# Altium schematic symbol library ADAPTONE_CARTE_DE_SON.SCHLIB: 34 symbols
Pins are listed as number, name and electrical type; pins without a type are passive.

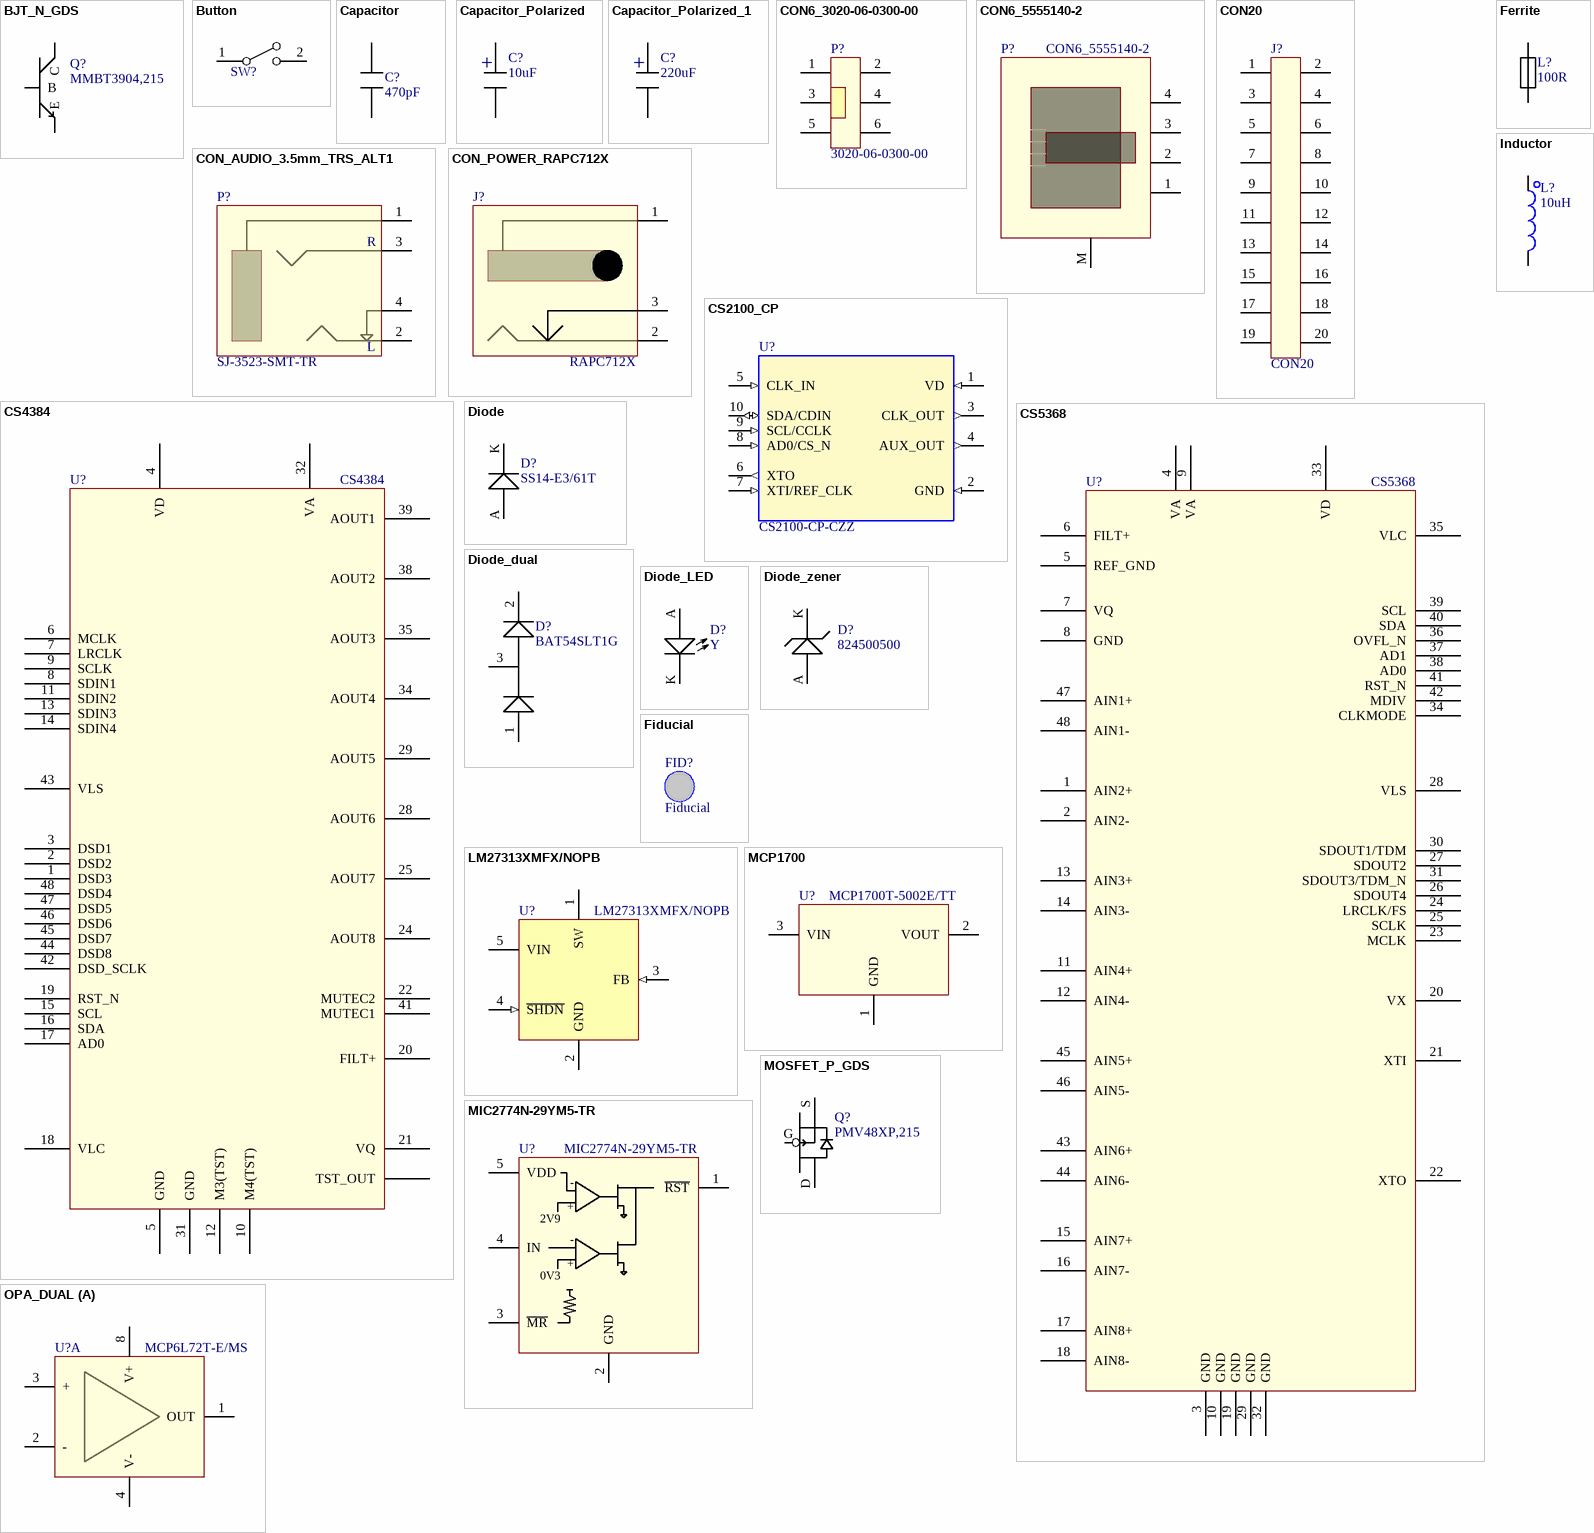
[diagram p0: symbols BJT_N_GDS to OPA_DUAL]

## BJT_N_GDS
designator Q?  Mfg_PN: MMBT3904,215  (hidden comment: BJT_N_GDS)
BJT NPN; Mfg: NXP; HelpURL: *; NI: *; Rating: *; Supplier1: Digikey; Supplier1_PN: 568-4510-1-ND; Tolerance: *; Type: *; Value: *
footprint SOT23_GDS (SOT23, 3-Leads, Body 3,0x2,6mm (max), Pitch 0,95mm, IPC Medium Density)
footprint TO254P1524X483-3N (D2-PAK, 3-Pads, Body 9,6x10,7mm (max), IPC Medium Density)
footprint SOT723 (ONSEMI CASE 631AA FOR DTC143Z-D)
pins: D C, G B, S E

## Button
designator SW?  (value not drawn)
Mfg: Wurth; Mfg_PN: 430152050826; HelpURL: *; NI: *; Rating: *; Tolerance: *; Value: *; Supplier1: Digikey; Supplier1_PN: 732-6993-1-ND
footprint SWITCH_EVQPU (Right-angle pushbutton, SMD, with mounting holes)
footprint BUTTON_FSM4JSMA (Note: pins inversées par rapport à la datasheet pour être compatible avec composant schématique "Button" (contact entre pins 1-2, serait entre 1-3 selon la datasheet))
footprint BUTTON_KS-01Q-01 (Note: pins inversées par rapport à la datasheet pour être compatible avec composant schématique "Button" (contact entre pins 1-2))
footprint BUTTON_WS-TASV (430152130836)
pins: 1, 2, 3 hidden, 4 hidden

## Capacitor
designator C?  value 470pF  (hidden comment: Capacitor)
Mfg: Samsung; Mfg_PN: CL10C471JB8NCNC; HelpURL: *; NI: *; Supplier1: Digikey; Supplier1_PN: 1276-2302-1-ND; Tolerance: *; Type: *; Rating: *
footprint 0402 (Chip Resistor, 2-Leads, Body 1,0x0,5mm, IPC Medium Density)
footprint 0603 (Chip Resistor, 2-Leads, Body 1,5x0,8mm, IPC Medium Density)
footprint 0805 (Chip Resistor, 2-Leads, Body 2,0x1,3mm, IPC Medium Density)
footprint 1206 (Chip Resistor, 2-Leads, Body 3,2x1,6mm, IPC Medium Density)
footprint 1210 (Chip Resistor, 2-Leads, Body 3,2x2,5mm, IPC Medium Density)
footprint 1812 (Chip Resistor, 2-Leads)
footprint 2010 (Chip Resistor, 2-Leads, Body 5,0x2,5mm, IPC Medium Density)
footprint 2512 (Chip Resistor, 2-Leads, Body 6,3x3,2mm, IPC Medium Density)
footprint 0201
pins: 1, 2

## Capacitor_Polarized
designator C?  value 10uF  (hidden comment: Capacitor_Polarized)
Capacitor; Mfg: Nichicon; Mfg_PN: UWX1C100MCL1GB; HelpURL: *; NI: *; Supplier1: Digikey; Supplier1_PN: 493-2100-1-ND; Tolerance: *; Type: *; Rating: *
footprint CAP_RAD_LS197_DIA394 (Lead spacing 0.197", Diameter 0.394")
footprint CAP_RAD_LS098_DIA315 (Lead spacing 0.098", Diameter 0.315")
footprint CAP_RAD_SMD_DIA157 (Aluminum Electrolytic Capacitor, D55 size code (UCC))
pins: +, -

## Capacitor_Polarized_1
designator C?, comment value 220uF  (hidden comment: Capacitor_Polarized)
Capacitor; Mfg: Nichicon; Mfg_PN: UWT1E221MNL1GS; HelpURL: *; NI: *; Supplier1: Digikey; Supplier1_PN: 493-2192-1-ND; Tolerance: *; Type: *; Rating: *
footprint CAP_RAD_LS197_DIA394 (Lead spacing 0.197", Diameter 0.394")
footprint CAP_RAD_LS098_DIA315 (Lead spacing 0.098", Diameter 0.315")
footprint CAP_RAD_SMD_DIA157 (Aluminum Electrolytic Capacitor, D55 size code (UCC))
footprint CAP_RAD_SMD_DIA315 (Aluminum Electrolytic Capacitor, 8mm diameter)
pins: +, -

## CON6_3020-06-0300-00
designator P?  Mfg_PN: 3020-06-0300-00  (hidden comment: CON6_3020-06-0300-00)
6-pins; Mfg: Harwin; HelpURL: *; NI: *; Rating: *; Supplier1: Digikey; Supplier1_PN: 3020-06-0300-00-ND; Tolerance: *; Type: *; Value: *
footprint CONN6_100mils_pol_SMD (CNC Tech 3020-06-0300-00)
pins: 1, 2, 3, 4, 5, 6

## CON6_5555140-2
designator P?
6p4c RJ11/RJ14, shielded (5555165-2 unshielded); Mfg: TE; HelpURL: *; Mfg_PN: 5555140-2; NI: *; Rating: *; Supplier1: Digikey; Supplier1_PN: A31436-ND; Tolerance: *; Type: *; Value: *
footprint CONN4_5555140-2 (5555140-2 (shielded) ou 5555165-2 (unshielded))
pins: 1, 2, 3, 4, M

## CON20
designator J?
20-pins; Mfg: CNC Tech; Mfg_PN: 3020-20-0300-00; HelpURL: *; NI: *; Rating: *; Supplier1: Digikey; Supplier1_PN: 1175-1623-ND; Tolerance: *; Type: *; Value: *
footprint CONN_2x10_0.050" (FCI 20021111)
footprint CONN20_100mils-Dualrow
footprint CONN20_100MILS-DUALROW-SMT (Double Row Gullwing ASM, 2x10 Pins, Vertical, 2.54mm Pitch, Male)
footprint CONN20_100mils_pol_SMD (CNC Tech 3020-20-0300-00)
pins: 1, 2, 3, 4, 5, 6, 7, 8, 9, 10, 11, 12, 13, 14, 15, 16, 17, 18, 19, 20

## CON_AUDIO_3.5mm_TRS_ALT1
designator P?  Mfg_PN: SJ-3523-SMT-TR  (hidden comment: CON_AUDIO_3.5mm_TRS_ALT1)
Audio 3.5mm CUI SJ-3523-SMT-TR; HelpURL: *; Mfg: CUI; NI: *; Rating: *; Supplier1: Digikey; Supplier1_PN: CP-3523SJCT-ND; Tolerance: *; Type: *; Value: *
footprint CONN_3.5mm_CUI 3523-SMT (Right-angle, surface-mounted 3.5mm connector TRRS)
pins: 1, 2 L, 3 R, 4 NC_L

## CON_POWER_RAPC712X
designator J?  Mfg_PN: RAPC712X  (hidden comment: CON_POWER_RAPC712X)
Power barrel connector, through-hole, 2.5mm ID,; Mfg: Switchcraft Inc.; HelpURL: *; NI: *; Rating: *; Supplier1: Digikey; Supplier1_PN: SC237-ND; Tolerance: *; Type: *; Value: *
footprint CONN_2.5mmID5.5mmOD_RAPC712X (Right-angle, through-hole power connector)
pins: 1 CENTER, 2 GROUND, 3 SW/BATT

## CS2100_CP
designator U?  Mfg_PN: CS2100-CP-CZZ  (hidden comment: CS2100_CP)
Fractional-N Clock Multiplier, Crystal Reference, MSOP10; Mfg: Cirrus Logic; Supplier1: Digikey; Supplier1_PN: 598-1750-ND
footprint MSOP10
pins: 1 VD (in), 2 GND (in), 3 CLK_OUT (out), 4 AUX_OUT (out), 5 CLK_IN (in), 6 XTO (out), 7 XTI/REF_CLK (in), 8 AD0/CS_N (in), 9 SCL/CCLK (in), 10 SDA/CDIN (io)

## CS4384
designator U?
DAC, 24-bit, 8 chan, 192kHz, PCM, TDM, DSD, LQFP48; Mfg: Cirrus; Mfg_PN: CS4384-CQZ; Supplier1: Digikey; Supplier1_PN: 598-1062-ND
footprint LQFP_48L_CIRRUS
pins: 1 DSD3, 2 DSD2, 3 DSD1, 4 VD, 5 GND, 6 MCLK, 7 LRCLK, 8 SDIN1, 9 SCLK, 10 M4(TST), 11 SDIN2, 12 M3(TST), 13 SDIN3, 14 SDIN4, 15 SCL, 16 SDA, 17 AD0, 18 VLC, 19 RST_N, 20 FILT+, 21 VQ, 22 MUTEC2, 23 TST_OUT hidden, 24 AOUT8, 25 AOUT7, 26 TST_OUT hidden, 27 TST_OUT hidden, 28 AOUT6, 29 AOUT5, 30 TST_OUT hidden, 31 GND, 32 VA, 33 TST_OUT hidden, 34 AOUT4, 35 AOUT3, 36 TST_OUT hidden, 37 TST_OUT hidden, 38 AOUT2, 39 AOUT1, 40 TST_OUT, 41 MUTEC1, 42 DSD_SCLK, 43 VLS, 44 DSD8, 45 DSD7, 46 DSD6, 47 DSD5, 48 DSD4

## CS5368
designator U?
ADC, 24bit, 8 chan, 192kHz, PCM, TDM, LQFP48; Mfg_PN: CS5368-CQZ; Mfg: Cirrus; Supplier1: Digikey; Supplier1_PN: 598-1090-ND
footprint LQFP_48L_CIRRUS
pins: 1 AIN2+, 2 AIN2-, 3 GND, 4 VA, 5 REF_GND, 6 FILT+, 7 VQ, 8 GND, 9 VA, 10 GND, 11 AIN4+, 12 AIN4-, 13 AIN3+, 14 AIN3-, 15 AIN7+, 16 AIN7-, 17 AIN8+, 18 AIN8-, 19 GND, 20 VX, 21 XTI, 22 XTO, 23 MCLK, 24 LRCLK/FS, 25 SCLK, 26 SDOUT4, 27 SDOUT2, 28 VLS, 29 GND, 30 SDOUT1/TDM, 31 SDOUT3/TDM_N, 32 GND, 33 VD, 34 CLKMODE, 35 VLC, 36 OVFL_N, 37 AD1, 38 AD0, 39 SCL, 40 SDA, 41 RST_N, 42 MDIV, 43 AIN6+, 44 AIN6-, 45 AIN5+, 46 AIN5-, 47 AIN1+, 48 AIN1-

## Diode
designator D?  Mfg_PN: SS14-E3/61T  (hidden comment: Diode)
Mfg: Vishay; HelpURL: *; NI: *; Supplier1: Digikey; Supplier1_PN: SS14-E3/61TGICT-ND; Tolerance: *; Type: *; Rating: *; Value: *
footprint DIOM2716X14N (SOD-123)
footprint DIODE_SMC (SMC)
footprint DIODE_SOD523 (Per NXP footprint recommendation (reflow soldering))
footprint DIODE_SMB (SMB)
footprint DIODE_SMA (SMA)
pins: A, K

## Diode_dual
designator D?  Mfg_PN: BAT54SLT1G  (hidden comment: Diode_dual)
Diode; Mfg: Onsemi; HelpURL: *; NI: *; Supplier1: Digikey; Supplier1_PN: BAT54SLT1GOSCT-ND; Tolerance: *; Type: *; Rating: *; Value: *
footprint SOT23_132 (SOT23, 3-Leads, Body 3,0x2,6mm (max), Pitch 0,95mm, IPC Medium Density)
pins: 1 K, 2 K, 3 AK

## Diode_LED
designator D?  Type: Y  (hidden comment: Diode_LED)
LED; Mfg: Osram; Mfg_PN: LY R976-PS-36; HelpURL: *; NI: *; Supplier1: Digikey; Supplier1_PN: 475-2560-1-ND; Tolerance: *; Rating: *; Value: *
footprint 0805_LED (Chip Resistor, 2-Leads, Body 2,0x1,3mm, IPC Medium Density)
footprint DIODE_LED_T1.75 (T1-3/4)
pins: A, K

## Diode_zener
designator D?  Mfg_PN: 824500500  (hidden comment: Diode_zener)
Diode; Mfg: Wurth; HelpURL: *; NI: *; Supplier1: Digikey; Supplier1_PN: 732-9974-1-ND; Tolerance: *; Type: *; Rating: *; Value: *
footprint DIOM2716X14N (SOD-123)
footprint DIODE_SOD523 (Per NXP footprint recommendation (reflow soldering))
footprint DIODE_DO-214AC/SMA (Molded Diode, 2-Leads, Body 4,25x2,67mm, IPC Low Density)
pins: A, K

## Ferrite
designator L?  value 100R  (hidden comment: Ferrite)
Mfg: Bourns; Mfg_PN: MH2029-101Y; Rating: 1A; HelpURL: *; NI: *; Supplier1: Digikey; Supplier1_PN: MH2029-101YCT-ND; Tolerance: *; Type: *
footprint 0402 (Chip Resistor, 2-Leads, Body 1,0x0,5mm, IPC Medium Density)
footprint 0603 (Chip Resistor, 2-Leads, Body 1,5x0,8mm, IPC Medium Density)
footprint 0805 (Chip Resistor, 2-Leads, Body 2,0x1,3mm, IPC Medium Density)
footprint 1206 (Chip Resistor, 2-Leads, Body 3,2x1,6mm, IPC Medium Density)
footprint 1210 (Chip Resistor, 2-Leads, Body 3,2x2,5mm, IPC Medium Density)
footprint Model Name (Footprint not found)
footprint 1812 (Chip Resistor, 2-Leads, Body 4,4x3,1mm, IPC Medium Density)
pins: 1, 2

## Fiducial
designator FID?
HelpURL: *; Mfg: *; Mfg_PN: *; NI: NI; Rating: *; Supplier1: *; Supplier1_PN: *; Tolerance: *; Type: *; Value: *
footprint FIDUCIAL
pins: 0 hidden

## Inductor
designator L?  value 10uH  (hidden comment: Inductor)
Mfg: Murata; Mfg_PN: DFE252012F-100M=P2; HelpURL: *; NI: *; Rating: *; Tolerance: *; Supplier1: Digikey; Supplier1_PN: 490-13050-1-ND
footprint IND_252012CDMC/DS
footprint IND_SRN4018
footprint IND_SRR5028 (Chip Inductor (non-standard)
footprint 0603 (Chip Resistor, 2-Leads, Body 1,5x0,8mm, IPC Medium Density)
footprint IND_SDE1006A (SMT inductor)
footprint IND_TYS6045 (SMT inductor)
footprint IND_TYS8040 (SMT inductor)
footprint 1210 (Chip Resistor, 2-Leads, Body 3,2x2,5mm, IPC Medium Density)
footprint TAIYO_NR6020
pins: 1, 2

## LM27313XMFX/NOPB
designator U?
1.6 MHz Boost Converter With 30V Internal FET Switch, 5-pin SOT-23, Pb-Free, 3000 Reel; Mfg: TI; Mfg_PN: LM27313XMF/NOPB; Supplier1: Digikey; Supplier1_PN: LM27313XMF/NOPBCT-ND
footprint MF05A_N (SOT23, 5-Leads, Body 2.9x1.6mm, Pitch 0.95mm, Lead Span 2.8mm, IPC Medium Density)
pins: 1 SW (power), 2 GND (power), 3 FB (in), 4 ~{SHDN} (in), 5 VIN (power)

## MCP1700
designator U?  Mfg_PN: MCP1700T-5002E/TT  (hidden comment: MCP1700)
Linear voltage regulator; Mfg: Microchip; HelpURL: http://ww1.microchip.com/downloads/en/DeviceDoc/20001826C.pdf; NI: *; Supplier1: Digikey; Supplier1_PN: MCP1700T5002ETTCT-ND; Type: *
footprint SOT23_132 (SOT23, 3-Leads, Body 3,0x2,6mm (max), Pitch 0,95mm, IPC Medium Density)
pins: 1 GND, 2 VOUT, 3 VIN

## MIC2774N-29YM5-TR
designator U?
Voltage supervisor and power-on timer, dual; Mfg: Micrel; HelpURL: *; Mfg_PN: MIC2774N-29YM5-TR; NI: *; Rating: *; Supplier1: Digikey; Supplier1_PN: 576-1101-1-ND; Tolerance: *; Type: *; Value: *
footprint SOT23_5
pins: 1 ~{RST} (oc), 2 GND, 3 ~{MR}, 4 IN, 5 VDD
text: -; +; 2V9; 0V3

## MOSFET_P_GDS
designator Q?  Mfg_PN: PMV48XP,215  (hidden comment: MOSFET_P_GDS)
PMOS; Mfg: NXP; HelpURL: *; NI: *; Rating: *; Supplier1: Digikey; Supplier1_PN: 568-7579-1-ND; Tolerance: *; Type: *; Value: *
footprint SOT23_GDS (SOT23, 3-Leads, Body 3,0x2,6mm (max), Pitch 0,95mm, IPC Medium Density)
footprint TO254P1524X483-3N (D2-PAK, 3-Pads, Body 9,6x10,7mm (max), IPC Medium Density)
footprint DMP2018LFK (DFN-6 P-MOSFET DMP2018LFK)
footprint SOT723 (ONSEMI CASE 631AA FOR DTC143Z-D)
pins: D, G, S

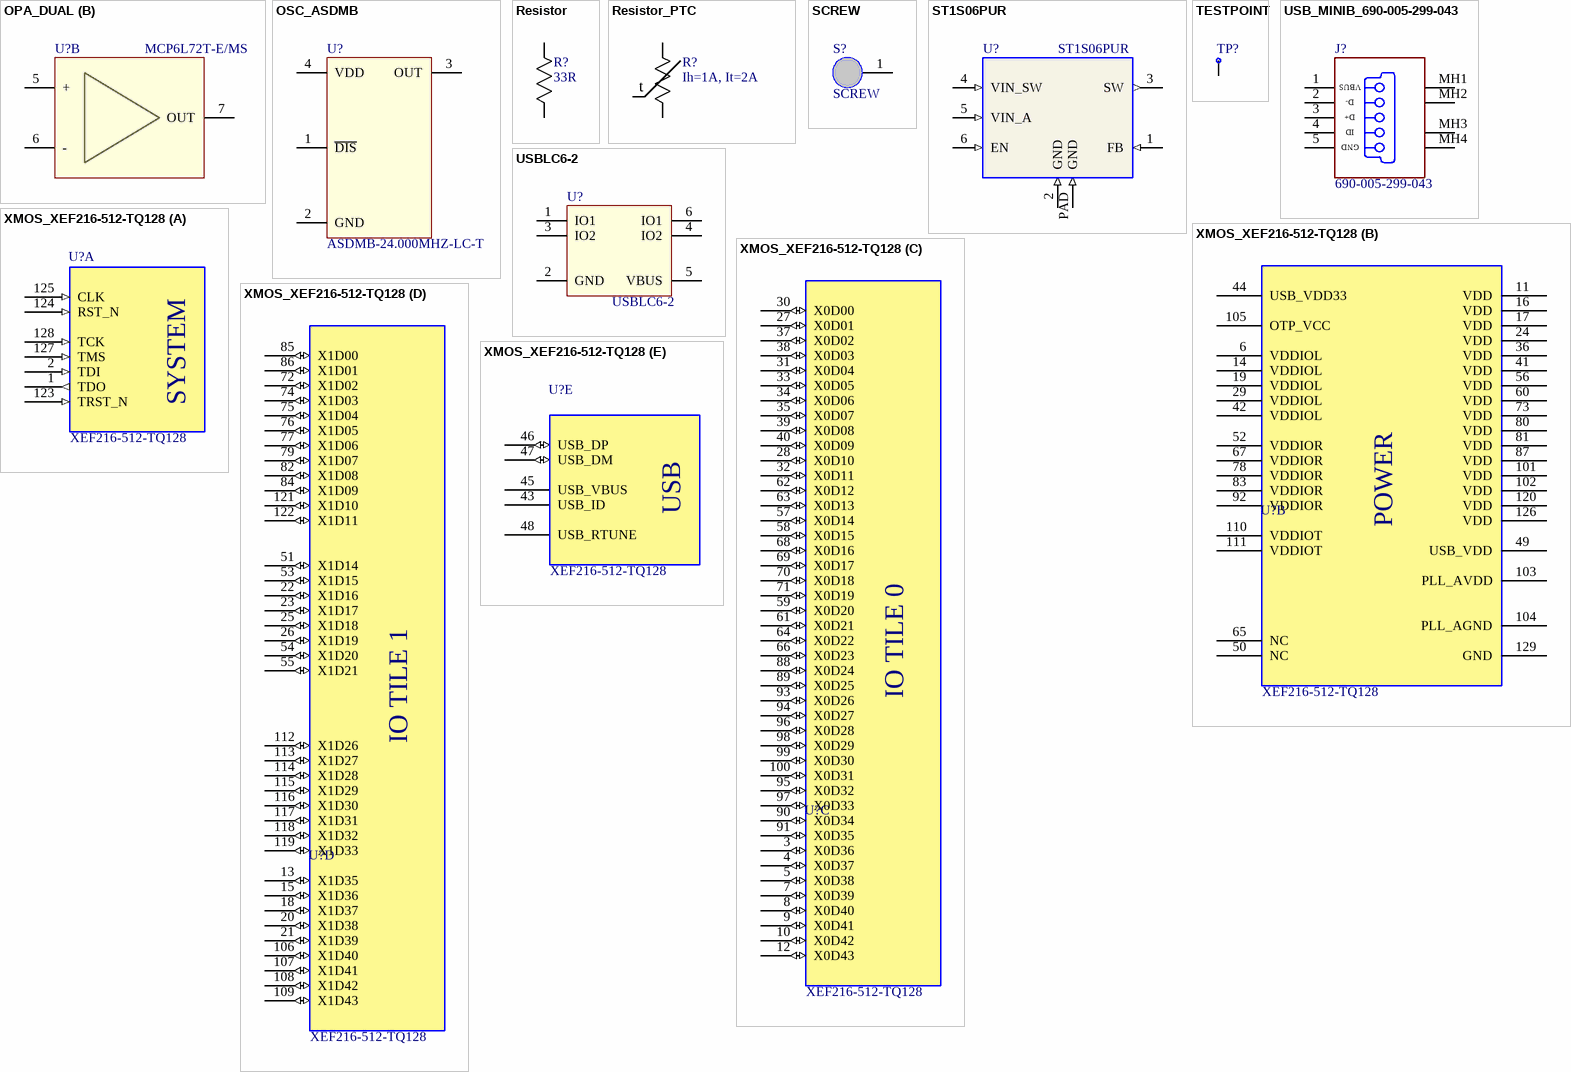
[diagram p1: symbols OPA_DUAL to XMOS_XEF216-512-TQ128]

## OPA_DUAL
designator U?  Mfg_PN: MCP6L72T-E/MS  (hidden comment: OPA_DUAL)
Dual amplifier (standard); Mfg: Microchip; HelpURL: *; NI: *; Rating: *; Supplier1: Digikey; Supplier1_PN: MCP6L72T-E/MSCT-ND; Tolerance: *; Value: *
footprint SOIC127P600-8N (For OPA2314)
footprint SOP127P600-8N
part A pins: 1 OUT, 2 -, 3 +, 4 V-, 8 V+
part B pins: 5 +, 6 -, 7 OUT

## OSC_ASDMB
designator U?  Mfg_PN: ASDMB-24.000MHZ-LC-T  (hidden comment: OSC_ASDMB)
Oscillator; 1V8 to 3V3; Mfg: Abracon; HelpURL: http://www.abracon.com/Oscillators/ASDMB.pdf; Supplier1: Digikey; Supplier1_PN: 535-11728-1-ND; NI: *; Type: 24MHz
footprint OSC_ADSMB (Oscillator)
pins: 1 ~{DIS}, 2 GND, 3 OUT, 4 VDD

## Resistor
designator R?  value 33R  (hidden comment: Resistor)
Mfg: Yageo; Mfg_PN: RC0603JR-0733RL; HelpURL: *; NI: *; Supplier1: Digikey; Supplier1_PN: 311-33GRCT-ND; Type: *; Rating: *; Tolerance: *
footprint 0603 (Chip Resistor, 2-Leads, Body 1,5x0,8mm, IPC Medium Density)
footprint 0805 (Chip Resistor, 2-Leads, Body 2,0x1,3mm, IPC Medium Density)
footprint 1206 (Chip Resistor, 2-Leads, Body 3,2x1,6mm, IPC Medium Density)
footprint 1210 (Chip Resistor, 2-Leads, Body 3,2x2,5mm, IPC Medium Density)
footprint 2010 (Chip Resistor, 2-Leads, Body 5,0x2,5mm, IPC Medium Density)
footprint 0402 (Chip Resistor, 2-Leads, Body 1,0x0,5mm, IPC Medium Density)
footprint 0201
footprint 2512 (Chip Resistor, 2-Leads, Body 6,3x3,2mm, IPC Medium Density)
pins: 1, 2

## Resistor_PTC
designator R?  value Ih=1A, It=2A  (hidden comment: Resistor_PTC)
Mfg: Bel fuse; Mfg_PN: 0ZCK0100FF2E; HelpURL: *; NI: *; Supplier1: Digikey; Supplier1_PN: 507-1815-1-ND; Type: *; Rating: *; Tolerance: *
footprint 2920 (2920 PTC from Bel fuse, 0ZCF series)
footprint 0805 (Chip Resistor, 2-Leads, Body 2,0x1,3mm, IPC Medium Density)
pins: 1, 2
text: t

## SCREW
designator S?
Screw hole; HelpURL: *; Mfg: *; Mfg_PN: *; NI: NI; Rating: *; Supplier1: *; Supplier1_PN: *; Tolerance: *; Type: *; Value: *
footprint SCREW_4_40
footprint SCREW_M3_STANDOFF_WURTH (9774040360R)
pins: 1

## ST1S06PUR
designator U?
DC-DC Buck Converter, 1.5A, 1.5MHz, DFN6; Mfg: ST Microelectronics; Mfg_PN: ST1S06PUR; Supplier1: Digikey; Supplier1_PN: 497-5802-1-ND
footprint DFN6_ST1S06
pins: 1 FB (in), 2 GND (in), 3 SW (out), 4 VIN_SW (in), 5 VIN_A (in), 6 EN (in), PAD GND (in)

## TESTPOINT
designator TP?  (value not drawn)
Test point; Mfg: TE; Mfg_PN: RCU-0C; HelpURL: *; NI: *; Rating: *; Supplier1: Digikey; Supplier1_PN: A106145CT-ND; Tolerance: *; Type: *; Value: *
footprint 1206 (Chip Resistor, 2-Leads, Body 3,2x1,6mm, IPC Medium Density)
footprint 0603 (Chip Resistor, 2-Leads, Body 1,5x0,8mm, IPC Medium Density)
footprint TESTPOINT
pins: 1, 2

## USB_MINIB_690-005-299-043
designator J?  Mfg_PN: 690-005-299-043  (hidden comment: USB_MINIB_690-005-299-043)
USB On-The-Go (OTG) Mini-B Receptacle, Right Angle, SMT, 0.80mm (.031") Pitch, Solder Tabs with Back Cover, Recessed Type; Mfg: EDAC; Supplier1: Digikey; Supplier1_PN: 151-1206-1-ND
footprint CONN_USB_MINIB_690-005-299-043 (Connector; USB Mini-B, SM; 5 Position; Right Angle)
pins: 1 V BUS (5V) "USB Vcc [Red]", 2 D- "USB Data - [White]", 3 D+ "USB Data + [Green]", 4 NC "Not Connected (or joined to pin 5 via resistor)", 5 GND "Ground [Black]", MH1 Tab "Shell", MH2 Tab "Shell", MH3 Tab "Shell", MH4 Tab "Shell"
text: VBUS; ID

## USBLC6-2
designator U?
USB overvoltage protection; Mfg: ST; HelpURL: http://www.st.com/web/en/resource/technical/document/datasheet/CD00050750.pdf; Mfg_PN: USBLC6-2; NI: *; Supplier1: Digikey; Supplier1_PN: 497-5026-2-ND; Type: *
footprint USBLC6-2 (SOT666, USB overvoltage protection device)
pins: 1 IO1, 2 GND, 3 IO2, 4 IO2, 5 VBUS, 6 IO1

## XMOS_XEF216-512-TQ128
designator U?  Mfg_PN: XEF216-512-TQ128
32-bit multicore microcontroller. 2 Tiles. 16 Logical Cores. 512KB SRAM. 1000MIPS. TQFP128.; Mfg: XMOS; Supplier1: Digikey; Supplier1_PN: 880-1100-ND
footprint TQFP128_XMOS
part A pins: 1 TDO (out), 2 TDI (in), 123 TRST_N (in), 124 RST_N (in), 125 CLK (in), 127 TMS (in), 128 TCK (in)
part B pins: 6 VDDIOL (power), 11 VDD (power), 14 VDDIOL (power), 16 VDD (power), 17 VDD (power), 19 VDDIOL (power), 24 VDD (power), 29 VDDIOL (power), 36 VDD (power), 41 VDD (power), 42 VDDIOL (power), 44 USB_VDD33 (power), 49 USB_VDD (power), 50 NC, 52 VDDIOR (power), 56 VDD (power), 60 VDD (power), 65 NC, 67 VDDIOR (power), 73 VDD (power), 78 VDDIOR (power), 80 VDD (power), 81 VDD (power), 83 VDDIOR (power), 87 VDD (power), 92 VDDIOR (power), 101 VDD (power), 102 VDD (power), 103 PLL_AVDD (power), 104 PLL_AGND (power), 105 OTP_VCC (power), 110 VDDIOT (power), 111 VDDIOT (power), 120 VDD (power), 126 VDD (power), 129 GND (power)
part C pins: 3 X0D36 (io), 4 X0D37 (io), 5 X0D38 (io), 7 X0D39 (io), 8 X0D40 (io), 9 X0D41 (io), 10 X0D42 (io), 12 X0D43 (io), 27 X0D01 (io), 28 X0D10 (io), 30 X0D00 (io), 31 X0D04 (io), 32 X0D11 (io), 33 X0D05 (io), 34 X0D06 (io), 35 X0D07 (io), 37 X0D02 (io), 38 X0D03 (io), 39 X0D08 (io), 40 X0D09 (io), 57 X0D14 (io), 58 X0D15 (io), 59 X0D20 (io), 61 X0D21 (io), 62 X0D12 (io), 63 X0D13 (io), 64 X0D22 (io), 66 X0D23 (io), 68 X0D16 (io), 69 X0D17 (io), 70 X0D18 (io), 71 X0D19 (io), 88 X0D24 (io), 89 X0D25 (io), 90 X0D34 (io), 91 X0D35 (io), 93 X0D26 (io), 94 X0D27 (io), 95 X0D32 (io), 96 X0D28 (io), 97 X0D33 (io), 98 X0D29 (io), 99 X0D30 (io), 100 X0D31 (io)
part D pins: 13 X1D35 (io), 15 X1D36 (io), 18 X1D37 (io), 20 X1D38 (io), 21 X1D39 (io), 22 X1D16 (io), 23 X1D17 (io), 25 X1D18 (io), 26 X1D19 (io), 51 X1D14 (io), 53 X1D15 (io), 54 X1D20 (io), 55 X1D21 (io), 72 X1D02 (io), 74 X1D03 (io), 75 X1D04 (io), 76 X1D05 (io), 77 X1D06 (io), 79 X1D07 (io), 82 X1D08 (io), 84 X1D09 (io), 85 X1D00 (io), 86 X1D01 (io), 106 X1D40 (io), 107 X1D41 (io), 108 X1D42 (io), 109 X1D43 (io), 112 X1D26 (io), 113 X1D27 (io), 114 X1D28 (io), 115 X1D29 (io), 116 X1D30 (io), 117 X1D31 (io), 118 X1D32 (io), 119 X1D33 (io), 121 X1D10 (io), 122 X1D11 (io)
part E pins: 43 USB_ID, 45 USB_VBUS, 46 USB_DP (io), 47 USB_DM (io), 48 USB_RTUNE
part A text: SYSTEM
part B text: POWER
part C text: IO TILE 0
part D text: IO TILE 1
part E text: USB